# Altium schematic symbol library OPA548F.SchLib: 1 symbol
Pins are listed as number, name and electrical type; pins without a type are passive.

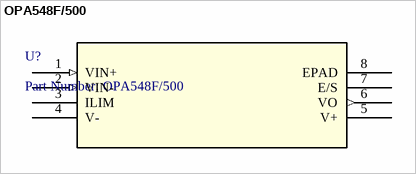
[diagram p0: symbol OPA548F/500]

## OPA548F/500
designator U?, comment Part Number: OPA548F/500
High-Voltage, High-Current, Wide-Output-Voltage-Swing Power Operational Amplifier; Manufacturer: Texas Instruments; Built_By: EMA_UL_Team; Vendor: Texas Instruments; Manufacturer_Part_Number: OPA548F/500; Copyright: Copyright (C) 2018 Accelerated Designs. All rights reserved; RefDes: RefDes; Type: DEV; Value: Value
footprint KTW7
footprint KTW7-L
footprint KTW7-M
pins: 1 VIN+ (in), 2 VIN- (in), 3 ILIM, 4 V- (power), 5 V+ (power), 6 VO (out), 7 E/S, 8 EPAD